# Altium schematic symbol library LibreriaEsquematico.SchLib: 6 symbols
Pins are listed as number, name and electrical type; pins without a type are passive.

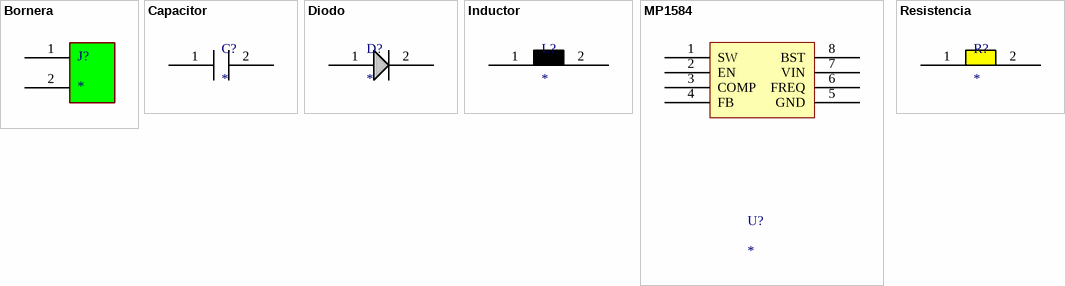
[diagram p0: symbols Bornera to Resistencia]

## Bornera
designator J?
footprint Bornera
pins: 1, 2

## Capacitor
designator C?
footprint 0805
pins: 1, 2

## Diodo
designator D?
footprint SMA
pins: 1, 2

## Inductor
designator L?
footprint SMT
pins: 1, 2

## MP1584
designator U?
CHIP DE FUENTE
footprint SOP8
pins: 1 SW, 2 EN, 3 COMP, 4 FB, 5 GND, 6 FREQ, 7 VIN, 8 BST

## Resistencia
designator R?
footprint 0805
pins: 1, 2